# Altium footprint library B8B-PHDSS(LF)(SN).PcbLib: 1 footprints
Each footprint in its own frame and in the unit in brackets; x right, y up, seen from the top. Pads: shape width x height; smd on the part's side, far side on the other; paste and mask are expansions set on the pad; w line width, h text height; cw(c..) or ccw(c..) is an arc to the next point about the centre after c.
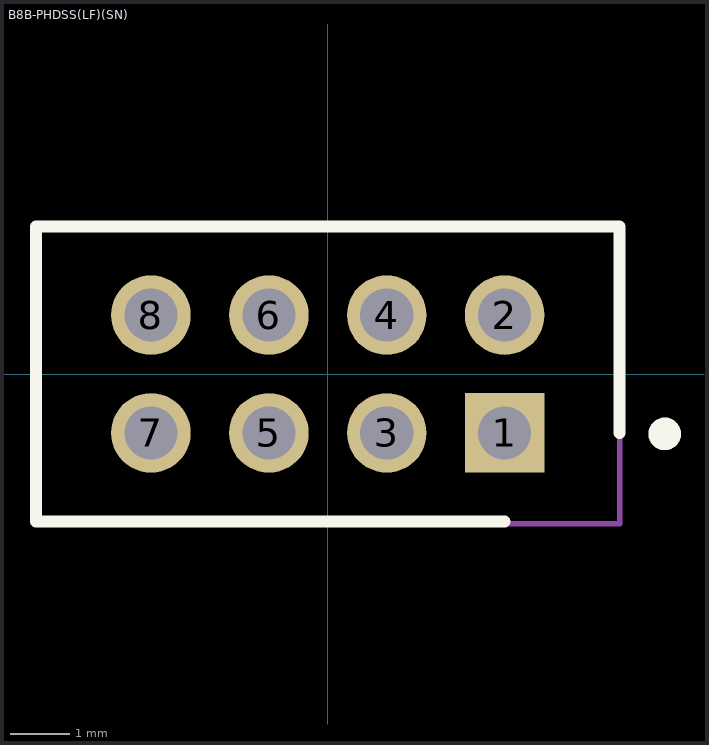
[diagram p0: the footprint, top view; thin cyan lines are the x and y axes]

## B8B-PHDSS(LF)(SN) [mm]
pads (8):
  rect 1.35x1.35 hole 0.9: 1(3,-1)
  round 1.35 hole 0.9: 2(3,1) 3(1,-1) 4(1,1) 5(-1,-1) 6(-1,1) 7(-3,-1) 8(-3,1)
Top Overlay:
  circle w0.3: c5.715,-1.016 r0.127
  lines w0.2: 3,-2.5 -4.95,-2.5 -4.95,2.5 4.95,2.5 4.95,-1
Top Courtyard:
  lines w0.1: -4.953,-2.54 4.953,-2.54 4.953,2.54 -4.953,2.54 -4.953,-2.54
3D body "B8B-PHDSS(LF)(SN).STEP": height 6.5, standoff -3, extent -4.95,-2.5 4.95,2.5